# Altium schematic symbol library MB85RC256VPNF-G-JNERE1.Schlib: 1 symbol
Pins are listed as number, name and electrical type; pins without a type are passive.

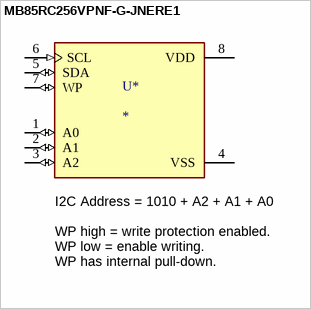
[diagram p0: symbol MB85RC256VPNF-G-JNERE1]

## MB85RC256VPNF-G-JNERE1
designator U*
Non-Volatile 256Kb (32K x 8) I2C 2.7V ~ 5.5V SOIC-8_150mil FRAM RoHS; MP: MB85RC256VPNF-G-JNERE1; ComponentLink1Description: LCSC - FUJITSU MB85RC256VPNF-G-JNERE1; ComponentLink1URL: https://lcsc.com/product-detail/FRAM_FUJITSU_MB85RC256VPNF_MB85RC256VPNF_C47538.html/?href=jlc-SMT; LCSC Part #: C47538; JLCPCB Part Type: Extended
footprint SOIC127P600X175-8N
pins: 1 A0 (io), 2 A1 (io), 3 A2 (io), 4 VSS (power), 5 SDA (io), 6 SCL (in), 7 WP (io), 8 VDD (power)
text: I2C Address = 1010 + A2 + A1 + A0 / WP high = write protection enabled. / WP low = enable writing. / WP has internal pull-down. /